# Altium footprint library FuelCellMonitor.PcbLib: 18 footprints (part 1 of 2)
Each footprint in its own frame and in the unit in brackets; x right, y up, seen from the top. Pads: shape width x height; smd on the part's side, far side on the other; paste and mask are expansions set on the pad; w line width, h text height; cw(c..) or ccw(c..) is an arc to the next point about the centre after c.
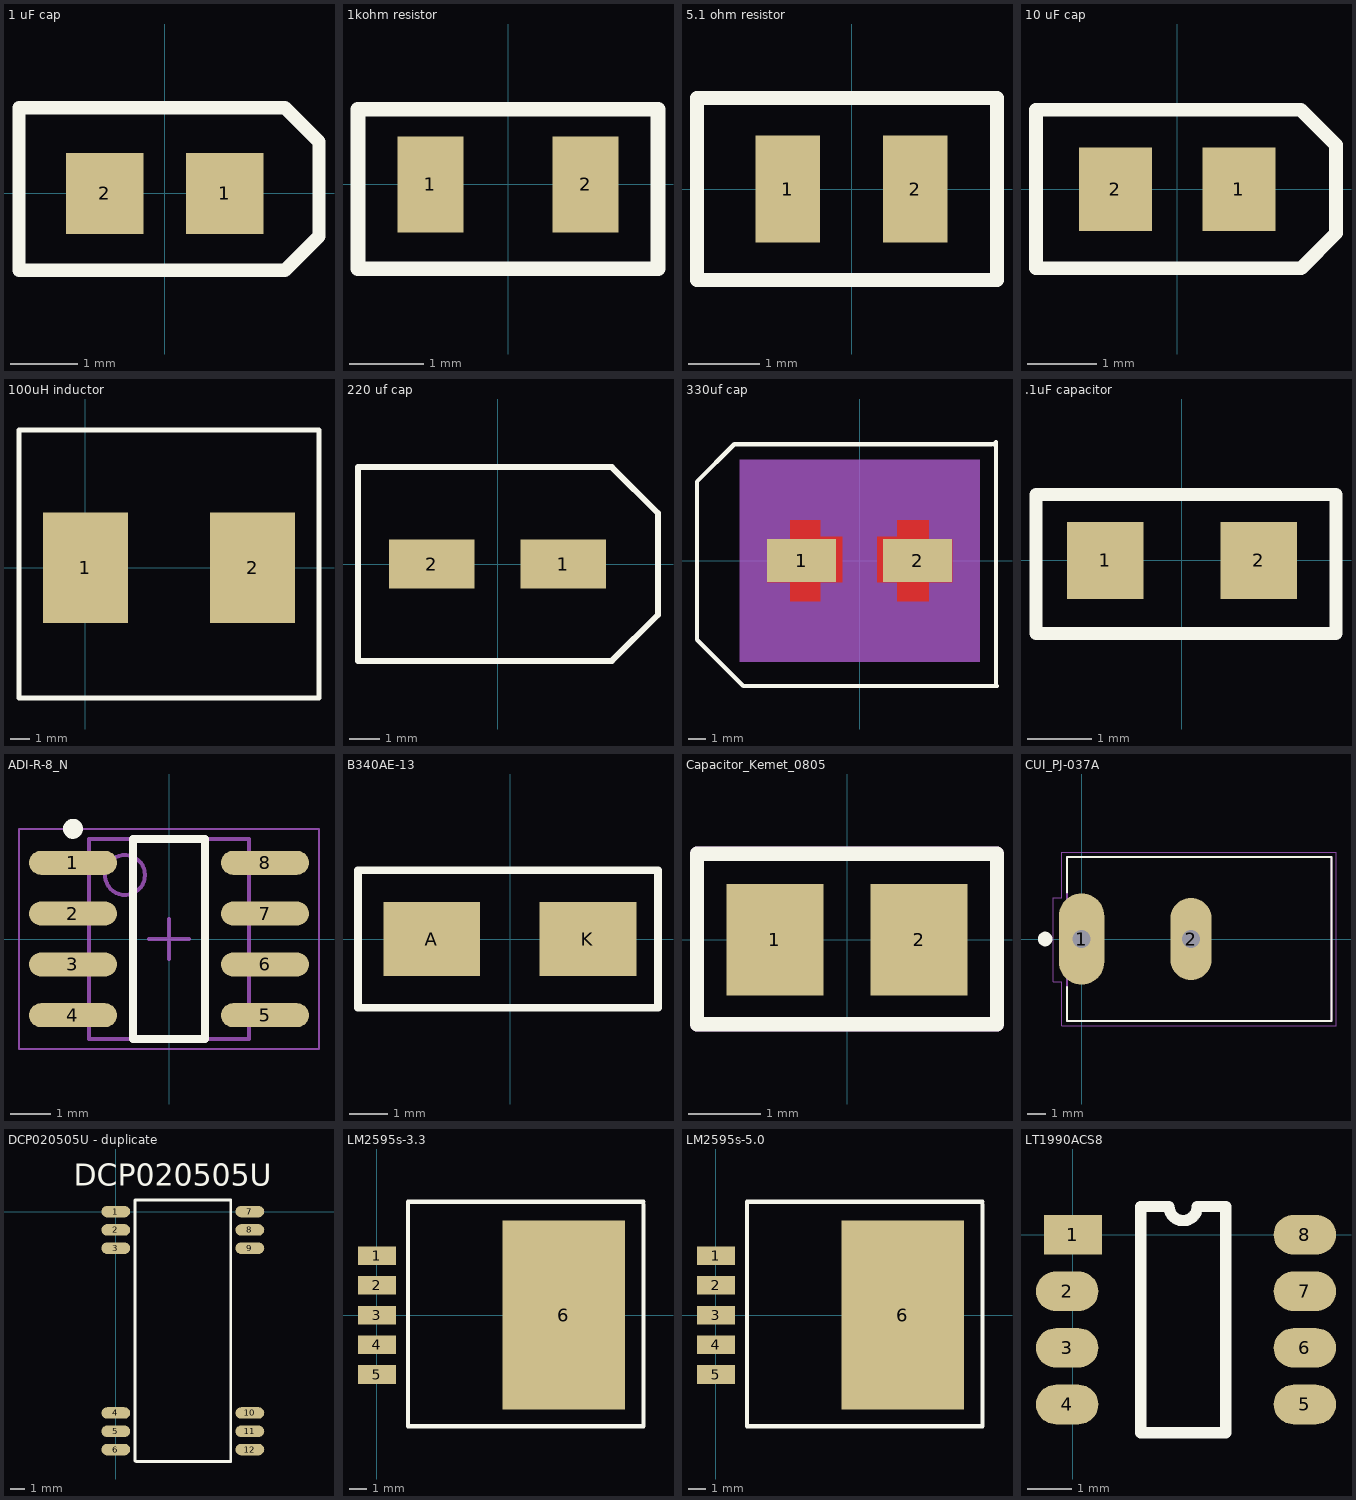
[diagram p0: the footprints below, top view; thin cyan lines are the x and y axes]

## 1 uF cap [mm]
pads (2):
  rect 1.15x1.2 smd: 1(0.889,0) 2(-0.889,0)
Top Overlay:
  lines w0.2: -2.159,-1.143 -2.159,-0.758 -2.159,1.27 1.778,1.27 2.286,0.762 2.286,-0.635 1.778,-1.143 -2.159,-1.143
3D body "CAP_TMCHPTMCP_VIS.step": height 1.24, standoff 0, extent -1.118,-0.724 1.118,0.724

## 1kohm resistor [mm]
pads (2):
  rect 0.9x1.3 smd: 1(-1.05,0) 2(1.05,0)
Top Overlay:
  lines w0.2: -2.032,-1.143 -2.032,0 -2.032,1.016 2.032,1.016 2.032,-1.143 -2.032,-1.143
3D body "STA_RMCF0805_STP.step": height 0.66, standoff 0, extent -1.105,-0.673 1.105,0.673

## 5.1 ohm resistor [mm]
pads (2):
  rect 0.9x1.5 smd: 1(-0.889,0) 2(0.889,0)
Top Overlay:
  lines w0.2: -2.159,-1.27 2.032,-1.27 2.032,1.27 -2.159,1.27 -2.159,-0.127 -2.159,-1.27
3D body "RES_RMCF0805_STP.step": height 0.66, standoff 0, extent -1.105,-0.673 1.105,0.673

## 10 uF cap [mm]
pads (2):
  rect 1.05x1.2 smd: 1(0.889,0) 2(-0.889,0)
Top Overlay:
  lines w0.2: -2.032,-1.139 1.782,-1.139 2.286,-0.635 2.286,0.635 1.778,1.143 -2.032,1.143 -2.032,-1.139
3D body "CAP_TMCHPTMCP_VIS.step": height 1.24, standoff 0, extent -1.118,-0.724 1.118,0.724

## 100uH inductor [mm]
pads (2):
  rect 4.4x5.7 smd: 1(0,0) 2(8.636,0)
Top Overlay:
  lines w0.254: 12.065,-4.572 12.065,4.318 ; 12.065,4.318 12.065,-6.731 -3.429,-6.731 -3.429,-4.699 -3.429,4.191 -3.429,7.112 12.065,7.112 12.065,4.318
3D body "IND_MSS1278_COC.step": height 8.05, standoff 0, extent -1.829,-6.274 10.465,6.02

## 220 uf cap [mm]
pads (2):
  rect 2.8x1.6 smd: 1(2.15,0) 2(-2.15,0)
Top Overlay:
  lines w0.2: -4.572,-3.175 -4.572,0.678 -4.572,3.175 3.742,3.175 5.25,1.667 5.25,-1.667 3.742,-3.175 -4.572,-3.175
3D body "CAP_PAN_EEE_C_PAN.step": height 6.15, standoff 0, extent -3.251,-2.756 3.251,2.756

## 330uf cap [mil]
pads (2):
  rect 157x98 smd paste+0 mask+0: 1(-131.89,0) 2(131.89,0)
Top Layer:
  region: 85,55 40,55 40,-49 85,-49 85,-92 157.39,-92 157.39,-49 210.39,-49 210.39,49 157.39,49 157.39,92 85,92
  region: -157.39,49 -210.39,49 -210.39,-49 -157.39,-49 -157.39,-92 -90,-92 -90,-49 -40,-49 -40,55 -90,55 -90,92 -157.39,92
Top Overlay:
  lines w10: 300,265 -285,265 -370,180 -370,-180 -265,-285 312.28,-285 310,-282.72 310,270 305,265
Top Paste:
  region: 106.39,49 53.39,49 53.39,-49 106.39,-49 106.39,-92 157.39,-92 157.39,-49 210.39,-49 210.39,49 157.39,49 157.39,92 106.39,92
Top Solder:
  region: 106.39,49 53.39,49 53.39,-49 106.39,-49 106.39,-92 157.39,-92 157.39,-49 210.39,-49 210.39,49 157.39,49 157.39,92 106.39,92
Mechanical 5:
  region: 272.89,-230 -272.89,-230 -272.89,230 272.89,230
Mechanical 13:
  lines w1: -167.32,-167.32 167.32,-167.32 167.32,167.32 -167.32,167.32 -167.32,-167.32
Mechanical 15:
  region: -187.5,-59 -220.39,-59 -220.39,59 -187.5,59 -187.5,177.5 187.5,177.5 187.5,59 220.39,59 220.39,-59 187.5,-59 187.5,-177.5 -187.5,-177.5
  lines w6: -220.39,-59 -220.39,59 -187.5,59 -187.5,177.5 187.5,177.5 187.5,59 220.39,59 220.39,-59 187.5,-59 187.5,-177.5 -187.5,-177.5 -187.5,-59 -220.39,-59
3D body "EEEFT1V331GV.STEP": height 413.93, standoff 0.5, extent -190.94,-158.39 190.94,168.39
3D body: height 10, standoff 0, extent 0,0 10,10

## .1uF capacitor [mm]
pads (2):
  rect 1.2x1.2 smd: 1(-1.2,0) 2(1.2,0)
Top Overlay:
  lines w0.2: -2.286,-1.143 2.413,-1.143 2.413,1.033 -2.286,1.033 -2.286,-1.143
3D body "CAP_CL21_SAM.step": height 1.35, standoff 0, extent -1,-0.625 1,0.625

## ADI-R-8_N [mm] "SOIC, 8-Leads, Body 4.9x3.9mm, Pitch 1.27mm, IPC Medium Density"
height 1.75
pads (8):
  oval 2.2x0.6 smd: 1(-2.4,1.905) 2(-2.4,0.635) 3(-2.4,-0.635) 4(-2.4,-1.905) 5(2.4,-1.905) 6(2.4,-0.635) 7(2.4,0.635) 8(2.4,1.905)
Top Overlay:
  circle w0.25: c-2.4,2.755 r0.125
  lines w0.2: -0.9,-2.5 -0.9,2.5 0.9,2.5 0.9,-2.5 -0.9,-2.5
Mechanical 13:
  circle w0.1: c-1.1,1.6 r0.5
  lines w0.1: -2,-2.5 -2,2.5 2,2.5 2,-2.5 -2,-2.5
Mechanical 15:
  lines w0.05: -3.75,-2.75 -3.75,2.75 3.75,2.75 3.75,-2.75 -3.75,-2.75
  lines w0.1: -0.5,0 0.5,0 ; 0,-0.5 0,0.5
3D body "R_8_ADI.step": height 1.76, standoff 0, extent -3.099,-2.502 3.099,2.502

## B340AE-13 [mm]
pads (2):
  rect 2.5x1.9 smd: A(-2.032,0) K(2,0)
Top Overlay:
  lines w0.2: -3.937,-1.778 -3.937,-0.201 -3.937,1.778 3.81,1.778 3.81,-1.778 -3.937,-1.778
3D body "CR_SMA_320-340AE_DIO.step": height 2.44, standoff 0, extent -2.794,-1.46 2.794,1.46

## Capacitor_Kemet_0805 [mm]
pads (2):
  rect 1.35x1.55 smd: 1(-1,0) 2(1,0)
Top Overlay:
  lines w0.2: -2.083,-1.168 2.083,-1.168 2.083,1.194 -2.083,1.194 -2.083,-1.168
Top Assembly:
  lines w0.2: -2.083,-1.168 2.083,-1.168 2.083,1.194 -2.083,1.194 -2.083,-1.168
  text ".Designator" at -1.602,-0.2 h0.7
3D body "CAPC230145_140N_KEM.step": height 1.4, standoff 0, extent -1.15,-0.725 1.15,0.725

## CUI_PJ-037A [mm]
pads (2):
  oval 2.5x5 hole 1 square: 1(0,0)
  oval 2.25x4.5 hole 1 square: 2(6,0)
Top Overlay:
  circle w0.4: c-2,0 r0.2
  lines w0.127: -0.8,-2.65 -0.8,-4.5 13.7,-4.5 13.7,4.5 -0.8,4.5 -0.8,2.55
Mechanical 13:
  lines w0.127: -0.8,-4.5 -0.8,4.5 13.7,4.5 13.7,-4.5 -0.8,-4.5
Mechanical 15:
  lines w0.05: -1.55,-2.35 -1.1,-2.35 -1.1,-4.75 13.95,-4.75 13.95,4.75 -1.1,4.75 -1.1,2.25 -1.55,2.25 -1.55,-2.35
3D body "CUI_DEVICES_PJ-037A.step": height 10.51, standoff -3.98, extent -0.911,-4.627 13.589,4.373

## DCP020505U - duplicate [mm]
pads (12):
  oval 2x0.8 smd: 1(0,0) 2(0,-1.27) 3(0,-2.54) 4(0,-13.97) 5(0,-15.24) 6(0,-16.51) 7(9.3,0) 8(9.3,-1.27) 9(9.3,-2.54) 10(9.3,-13.97) 11(9.3,-15.24) 12(9.3,-16.51)
Top Overlay:
  lines w0.2: 1.327,-17.305 1.327,0.795 ; 1.397,-17.345 7.973,-17.345 7.973,0.795 ; 1.397,0.816 7.973,0.816
  text "DCP020505U" at -2.921,1.778 h1.52
3D body "DVB12_TEX.step": height 1.7, standoff 0, extent -0.626,-17.305 10.024,0.795

## LM2595s-3.3 [mm]
pads (6):
  rect 2.16x1.07 smd: 1(0,3.4) 2(0,1.7) 3(0,0) 4(0,-1.7) 5(0,-3.4)
  rect 7x10.8 smd: 6(10.67,0)
Top Overlay:
  lines w0.254: 15.24,6.35 15.24,-6.35 1.778,-6.35 1.778,6.477 13.97,6.477 15.24,6.477
3D body "TS5B.step": height 4.8, standoff -0.05, extent 0,-5.207 12.132,5.207

## LM2595s-5.0 [mm]
pads (6):
  rect 2.16x1.07 smd: 1(0,3.4) 2(0,1.7) 3(0,0) 4(0,-1.7) 5(0,-3.4)
  rect 7x10.8 smd: 6(10.67,0)
Top Overlay:
  lines w0.254: 15.24,6.35 15.24,-6.35 1.778,-6.35 1.778,6.477 13.97,6.477 15.24,6.477
3D body "TS5B.step": height 4.8, standoff -0.05, extent 0,-5.207 12.132,5.207

## LT1990ACS8 [mil]
pads (8):
  rect 51.18x35 smd: 1(0,0)
  oval 55.12x35 smd: 2(-5,-50) 3(-5,-100) 4(-5,-150) 5(205,-150) 6(205,-100) 7(205,-50) 8(205,0)
Top Overlay:
  lines w10: 60,-175 60,25 85,25 ccw(c97.5,25) 110,25 135,25 135,-175 60,-175
3D body "SO-8_S_LIT.step": height 69.09, standoff 0, extent -20,-173.5 224.02,23.5